# Altium schematic symbol library con_molex_12_52207-1233.SchLib: 1 symbol
Pins are listed as number, name and electrical type; pins without a type are passive.

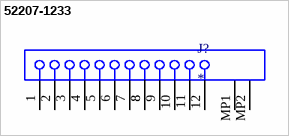
[diagram p0: symbol 52207-1233]

## 52207-1233
designator J?
footprint 52207-1233
pins: 1, 2, 3, 4, 5, 6, 7, 8, 8, 9, 10, 11, 12, MP1, MP2